# EAGLE library part IN-4 (library NixieTube)
IN-4: large numeric topview nixie tube
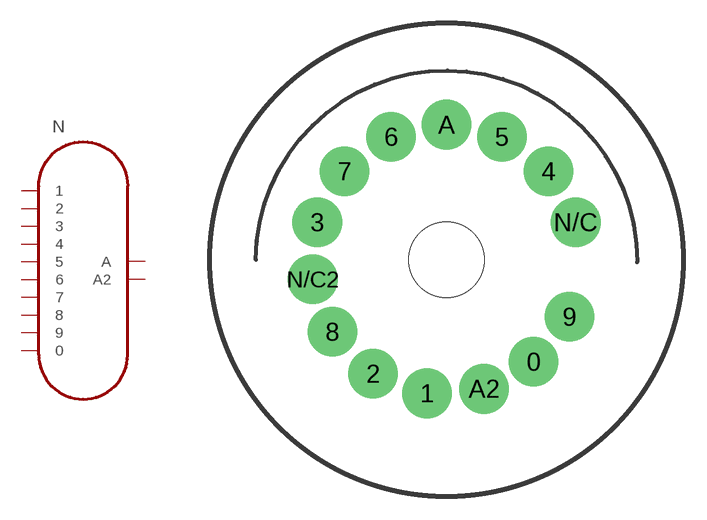
[diagram p6: symbol with the pads of IN-18; footprint IN-18]

Designator prefix N

## IN-4  [IN-18]
0  A
1  3
2  A2
4  6
5  8
6  9
7  7
8  2
9  1
A2  5
N/C  4
N/C2  0

## Footprint IN-18 (pad centres in mm)
May be used with socket: PL31-P
drill 2.3 pad 3.2: 0 5.8,-6.8; 1 -1.3,-8.9; 2 -4.9,-7.6; 3 -8.6,2.5; 4 6.8,5.9; 5 3.7,8.2; 6 -3.7,8.2; 7 -6.8,5.9; 8 -7.6,-4.8; 9 8.2,-3.8; A 0,9; A2 2.5,-8.6; N/C 8.6,2.5; N/C2 -8.9,-1.3
hole 5 at 0,0